# Altium footprint library PcbLib1.PcbLib: 35 footprints (part 1 of 3)
Each footprint in its own frame and in the unit in brackets; x right, y up, seen from the top. Pads: shape width x height; smd on the part's side, far side on the other; paste and mask are expansions set on the pad; w line width, h text height; cw(c..) or ccw(c..) is an arc to the next point about the centre after c.
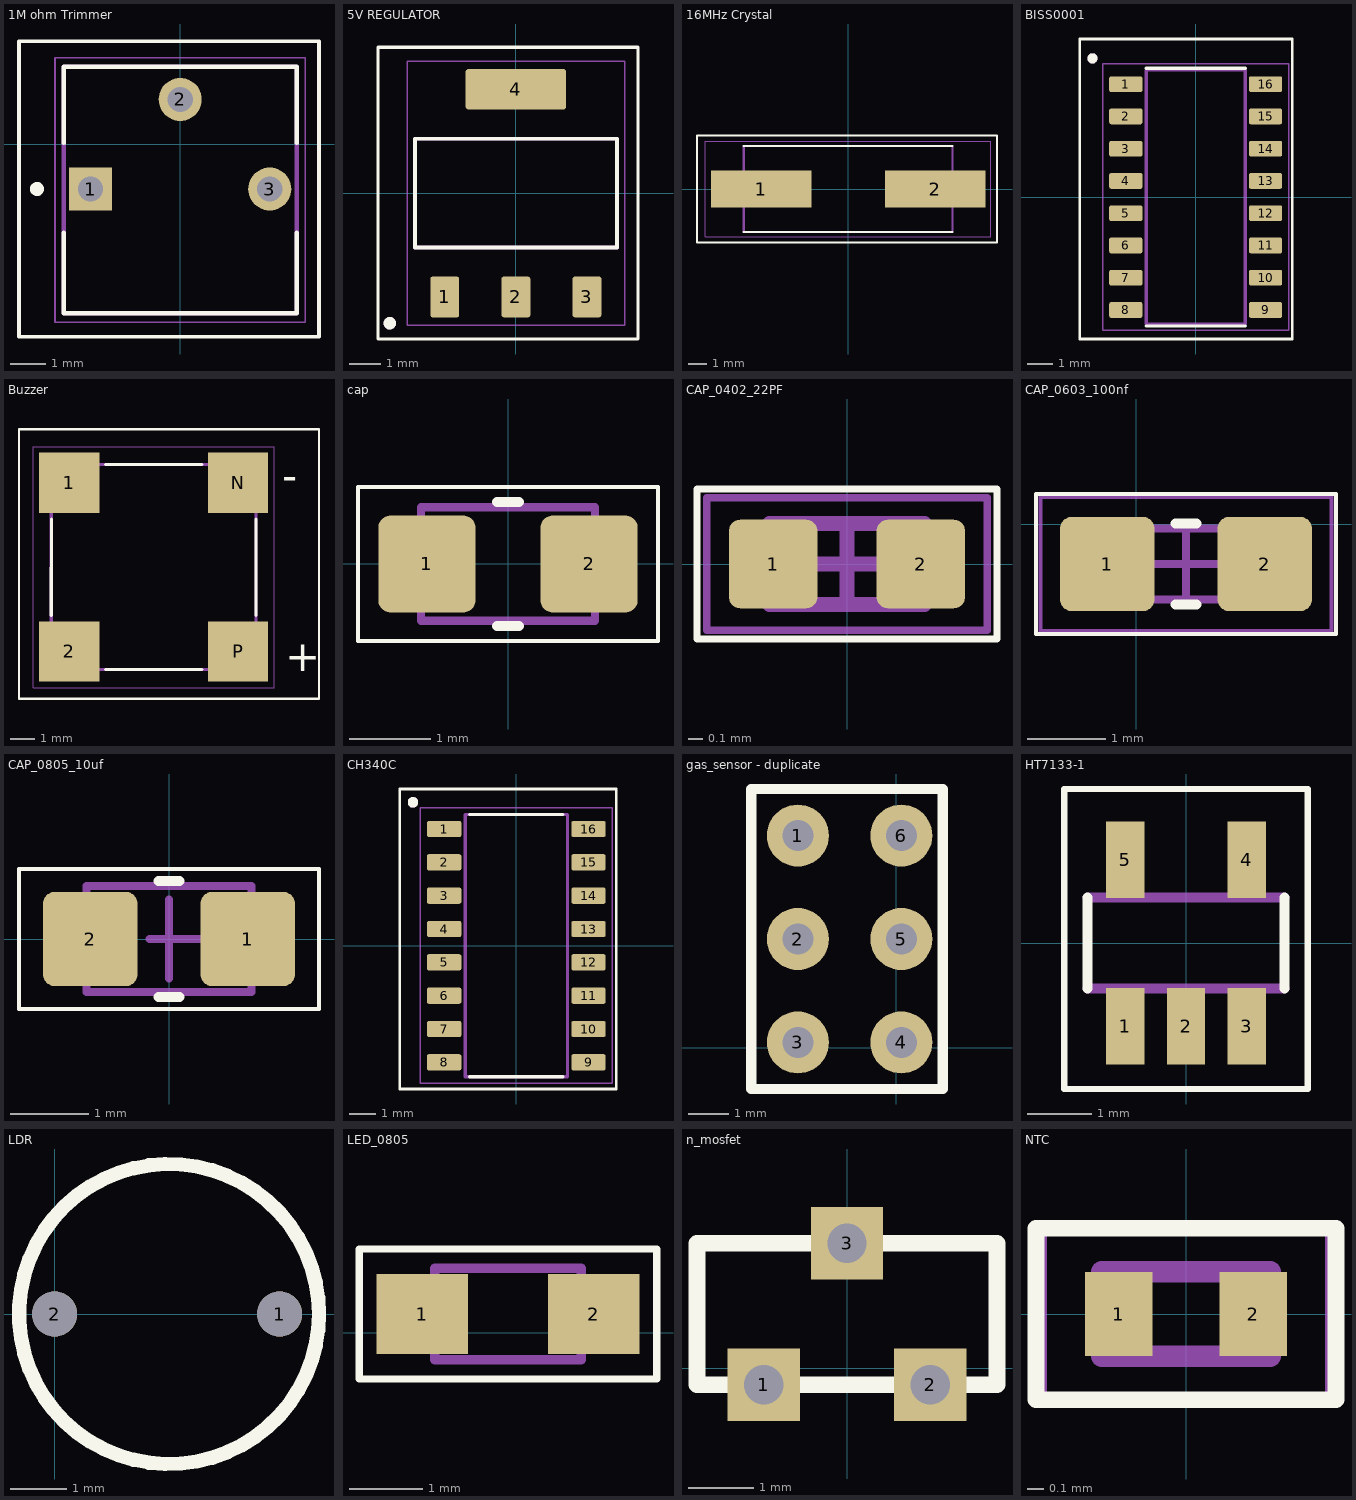
[diagram p0: the footprints below, top view; thin cyan lines are the x and y axes]

## 1M ohm Trimmer [mm]
pads (3):
  rect 1.222x1.222 / inner round 1.222 / far side rect 1.222x1.222 hole 0.714: 1(-2.54,-1.27)
  round 1.222 hole 0.714: 2(0,1.27) 3(2.54,-1.27)
Top Overlay:
  circle w0.2: c-4.064,-1.27 r0.1
  lines w0.1: -4.572,-5.461 3.937,-5.461 3.937,2.921 -4.572,2.921 -4.572,-5.461
  lines w0.127: -3.3,-4.8 3.3,-4.8 ; -3.3,-4.79 -3.3,-2.505 ; -3.3,0.035 -3.3,2.2 3.3,2.2 3.3,0.035 ; 3.3,-4.79 3.3,-2.505
Top 3D Body:
  lines w0.127: -3.3,-4.8 3.3,-4.8 3.3,2.2 -3.3,2.2 -3.3,-4.8
Top Courtyard:
  lines w0.05: -3.55,-5.05 3.55,-5.05 3.55,2.45 -3.55,2.45 -3.55,-5.05
3D body "step_temp.STEP": height 4.88, standoff -5.84, extent -3.3,-4.765 3.3,2.225

## 5V REGULATOR [mm]
pads (4):
  rrect15% 0.93x1.31 smd: 1(-2.29,-3.345) 2(0,-3.345) 3(2.29,-3.345)
  rrect15% 3.24x1.31 smd: 4(0,3.345)
Top Overlay:
  circle w0.2: c-4.064,-4.191 r0.1
  lines w0.1: -4.445,-4.699 3.937,-4.699 3.937,4.699 -4.445,4.699 -4.445,-4.699
  lines w0.127: -3.252,-1.752 -3.252,1.753 3.253,1.753 3.253,-1.752 -3.252,-1.752
Top 3D Body:
  circle w0.2: c-4.064,-4.191 r0.1
  lines w0.127: -3.252,-1.752 -3.252,1.753 3.253,1.753 3.253,-1.752 -3.252,-1.752
Top Courtyard:
  lines w0.05: -3.502,-4.25 -3.502,4.25 3.503,4.25 3.503,-4.25 -3.502,-4.25
3D body "step_temp.STEP": height 1.8, standoff 0, extent -3.251,-3.499 3.251,3.499

## 16MHz Crystal [mm]
pads (2):
  rect 5.5x2 smd paste+0 mask+0.102: 1(-4.75,0) 2(4.75,0)
Top Overlay:
  lines w0.1: -8.255,-2.921 8.128,-2.921 8.128,2.921 -8.255,2.921 -8.255,-2.921
  lines w0.127: -5.7,-2.35 5.7,-2.35 ; -5.7,2.35 5.7,2.35
Top 3D Body:
  lines w0.127: -5.7,-2.35 5.7,-2.35 5.7,2.35 -5.7,2.35 -5.7,-2.35
Top Courtyard:
  lines w0.05: -7.8,-2.6 7.8,-2.6 7.8,2.6 -7.8,2.6 -7.8,-2.6
3D body "step_temp.STEP": height 3.3, standoff 0, extent -6.35,-2.35 6.35,2.35

## BISS0001 [mm]
pads (16):
  rrect25% 1.31x0.62 smd paste+0 mask+0.102: 1(-2.75,4.445) 2(-2.75,3.175) 3(-2.75,1.905) 4(-2.75,0.635) 5(-2.75,-0.635) 6(-2.75,-1.905) 7(-2.75,-3.175) 8(-2.75,-4.445) 9(2.75,-4.445) 10(2.75,-3.175) 11(2.75,-1.905) 12(2.75,-0.635) 13(2.75,0.635) 14(2.75,1.905) 15(2.75,3.175) 16(2.75,4.445)
Top Overlay:
  circle w0.2: c-4.064,5.461 r0.1
  lines w0.1: -4.572,-5.588 3.81,-5.588 3.81,6.223 -4.572,6.223 -4.572,-5.588
  lines w0.127: -1.95,-5.075 1.95,-5.075 ; -1.95,5.075 1.95,5.075
Top 3D Body:
  circle w0.2: c-4.064,5.461 r0.1
  lines w0.127: -1.95,-5 -1.95,5 1.95,5 1.95,-5 -1.95,-5
Top Courtyard:
  lines w0.05: -3.655,-5.25 -3.655,5.25 3.655,5.25 3.655,-5.25 -3.655,-5.25
3D body "step_temp.STEP": height 1.8, standoff 0, extent -3,-5 3,5

## Buzzer [mm]
pads (4):
  rect 2.5x2.5 smd: 1(42.22,14.549) 2(42.22,7.549) N(49.22,14.549) P(49.22,7.549)
Top Overlay:
  lines w0.1: 40.132,5.588 52.578,5.588 52.578,16.764 40.132,16.764 40.132,5.588
  lines w0.127: 41.47,9.049 41.48,13.049 ; 43.72,6.799 47.72,6.799 ; 43.72,15.299 47.72,15.299 ; 49.97,9.049 49.97,13.049
  text "+" at 51.181,6.731 h1.27
  text "-" at 51.054,14.224 h1.27
Top 3D Body:
  lines w0.127: 41.47,6.799 49.97,6.799 49.97,15.299 41.47,15.299 41.47,6.799
Top Courtyard:
  lines w0.05: 40.72,6.049 50.72,6.049 50.72,16.049 40.72,16.049 40.72,6.049
3D body "step_temp.STEP": height 1, standoff -3, extent 41.402,6.799 49.902,15.299

## cap [mm] "Chip Resistor, 2-Leads, Body 2.00x1.27mm, IPC Medium Density"
height 0.55
pads (2):
  rrect25% 1.2x1.2 smd: 1(-1,0) 2(1,0)
Top Overlay:
  lines w0.05: -1.85,-0.95 1.85,-0.95 1.85,0.95 -1.85,0.95 -1.85,-0.95
  lines w0.127: -0.136,-0.764 0.136,-0.764 ; -0.136,0.763 0.136,0.763
  text ".Designator" at 0,0.019 h0.1
Top Assembly:
  lines w0.1: -1.075,-0.7 -1.075,0.7 1.075,0.7 1.075,-0.7 -1.075,-0.7
3D body: height 0.55, standoff 0, extent -0.6,-0.638 0.6,0.637
3D body: height 0.55, standoff 0, extent -1,-0.638 -0.6,0.637
3D body: height 0.55, standoff 0, extent 0.6,-0.638 1,0.637

## CAP_0402_22PF [mm] "Chip Capacitor, 2-Leads, Body 1.00x0.50mm, IPC Medium Density"
height 0.55
pads (2):
  rrect25% 0.6x0.6 smd: 1(-0.5,0) 2(0.5,0)
Top Overlay:
  lines w0.05: -1.016,-0.508 1.016,-0.508 1.016,0.508 -1.016,0.508 -1.016,-0.508
Top Assembly:
  lines w0.1: -0.525,-0.275 0.525,-0.275 0.525,0.275 -0.525,0.275 -0.525,-0.275
Top Designator:
  text "C?" at -0.127,-0.25 h0.4
Top Courtyard:
  lines w0.05: -0.95,-0.45 0.95,-0.45 0.95,0.45 -0.95,0.45 -0.95,-0.45
Top Component Center:
  lines w0.1: -0.275,0 0.275,0 ; 0,-0.275 0,0.275
3D body "CAPC1005X55N.step": height 0.55, standoff 0, extent -0.5,-0.25 0.5,0.25

## CAP_0603_100nf [mm]
pads (2):
  rrect25% 1.2x1.2 smd: 1(-0.365,-0.508) 2(1.635,-0.508)
Top Overlay:
  lines w0.05: -1.27,-1.397 2.54,-1.397 2.54,0.381 -1.27,0.381 -1.27,-1.397
  lines w0.127: 0.499,-1.022 0.771,-1.022 ; 0.499,0.005 0.771,0.005
Top Assembly:
  lines w0.1: -0.215,-0.958 1.485,-0.958 1.485,-0.058 -0.215,-0.058 -0.215,-0.958
Top Designator:
  text "C?" at 0.127,-0.37 h1
Top Courtyard:
  lines w0.05: -1.215,-1.358 2.485,-1.358 2.485,0.342 -1.215,0.342 -1.215,-1.358
Top Component Center:
  lines w0.1: 0.185,-0.508 1.085,-0.508 ; 0.635,-0.958 0.635,-0.058
3D body "CAPC1608X90N.step": height 0.9, standoff 0, extent -0.165,-0.908 1.435,-0.108

## CAP_0805_10uf [mm] "Chip Capacitor, 2-Leads, Body 2.00x1.25mm, IPC Medium Density"
height 1.35
pads (2):
  rrect25% 1.2x1.2 smd: 1(1,0) 2(-1,0)
Top Overlay:
  lines w0.05: -1.905,-0.889 1.905,-0.889 1.905,0.889 -1.905,0.889 -1.905,-0.889
  lines w0.127: -0.136,-0.739 0.136,-0.739 ; -0.136,0.738 0.136,0.738
Mechanical 1:
  text "C?" at -1.778,0.664 h0.15
Top Assembly:
  lines w0.1: -1.05,-0.675 1.05,-0.675 1.05,0.675 -1.05,0.675 -1.05,-0.675
Top Courtyard:
  lines w0.05: -1.905,-0.889 1.905,-0.889 1.905,0.889 -1.905,0.889 -1.905,-0.889
Top Component Center:
  lines w0.1: -0.246,0 0.754,0 ; 0,-0.5 0,0.5
3D body: height 1.35, standoff 0, extent 0.55,-0.625 1,0.625
3D body: height 1.35, standoff 0, extent -1,-0.625 -0.55,0.625
3D body: height 1.35, standoff 0, extent -0.55,-0.625 0.55,0.625

## CH340C [mm]
pads (16):
  rrect25% 1.31x0.62 smd: 1(-2.75,4.445) 2(-2.75,3.175) 3(-2.75,1.905) 4(-2.75,0.635) 5(-2.75,-0.635) 6(-2.75,-1.905) 7(-2.75,-3.175) 8(-2.75,-4.445) 9(2.75,-4.445) 10(2.75,-3.175) 11(2.75,-1.905) 12(2.75,-0.635) 13(2.75,0.635) 14(2.75,1.905) 15(2.75,3.175) 16(2.75,4.445)
Top Overlay:
  circle w0.2: c-3.937,5.461 r0.1
  lines w0.1: -4.445,-5.461 -4.445,5.969 3.81,5.969 3.81,-5.461 -4.445,-5.461
  lines w0.127: -1.775,-5 1.775,-5 -1.775,-5 ; -1.775,5 1.775,5 -1.775,5
Top 3D Body:
  circle w0.2: c-3.937,5.461 r0.1
  lines w0.127: -1.95,-5 -1.95,5 1.95,5 1.95,-5 -1.95,-5
Top Courtyard:
  lines w0.05: -3.655,-5.25 3.655,-5.25 3.655,5.25 -3.655,5.25 -3.655,-5.25
3D body "step_temp.STEP": height 1.8, standoff 0, extent -3,-5 3,5

## gas_sensor - duplicate [mil]
pads (6):
  round 60 hole 30: 1(-95,205) 2(-95,105) 3(-95,5) 4(5,5) 5(5,105) 6(5,205)
Top Overlay:
  lines w10: -140,-40 -140,250 45,250 45,-40 -140,-40

## HT7133-1 [mm]
pads (5):
  rect 0.6x1.2 smd paste+0 mask+0.102: 1(-0.95,-1.306) 2(0,-1.306) 3(0.95,-1.306) 4(0.95,1.306) 5(-0.95,1.306)
Top Overlay:
  lines w0.1: -1.905,-2.286 -1.905,2.413 1.905,2.413 1.905,-2.286 -1.905,-2.286
  lines w0.152: -1.544,-0.712 -1.544,0.713 ; 1.544,-0.712 1.544,0.713
Top 3D Body:
  region: -0.713,0.713 -1.188,0.713 -1.188,1.544 -0.713,1.544
  region: 1.188,0.713 0.713,0.713 0.713,1.544 1.188,1.544
  region: -0.713,-1.544 -1.188,-1.544 -1.188,-0.712 -0.713,-0.712
  region: 0.238,-1.544 -0.238,-1.544 -0.238,-0.712 0.238,-0.712
  region: 1.188,-1.544 0.713,-1.544 0.713,-0.712 1.188,-0.712
  lines w0.152: -1.544,-0.712 1.544,-0.712 ; -1.544,0.713 1.544,0.713

## LDR [mm]
pads (2):
  round 0.8 hole 0.8: 1(4,0) 2(0,0)
Top Overlay:
  circle w0.254: c2.032,0 r2.667

## LED_0805 [mm]
pads (2):
  rect 1.25x1.1 smd: 1(-5.874,0.254) 2(-3.524,0.254)
Top Overlay:
  lines w0.1: -6.731,-0.635 -2.667,-0.635 -2.667,1.143 -6.731,1.143 -6.731,-0.635
Top 3D Body:
  lines w0.127: -5.699,-0.371 -5.699,0.879 -3.699,0.879 -3.699,-0.371 -5.699,-0.371
Top Courtyard:
  lines w0.05: -6.749,-0.621 -2.649,-0.621 -2.649,1.129 -6.749,1.129 -6.749,-0.621

## n_mosfet [mm]
pads (3):
  rect 1.1x1.1 hole 0.6 square: 1(-1.27,-0.254) 2(1.27,-0.254) 3(0,1.905)
Top Overlay:
  lines w0.254: -2.286,-0.254 -2.286,1.905 2.286,1.905 2.286,-0.254 -2.286,-0.254

## NTC [mm]
pads (2):
  rect 0.4x0.5 smd: 1(-0.4,0) 2(0.4,0)
Top Overlay:
  lines w0.1: -0.889,-0.508 0.889,-0.508 0.889,0.508 -0.889,0.508 -0.889,-0.508
Top 3D Body:
  lines w0.127: -0.5,-0.25 -0.5,0.25 0.5,0.25 0.5,-0.25 -0.5,-0.25
Top Courtyard:
  lines w0.05: -0.85,-0.5 -0.85,0.5 0.85,0.5 0.85,-0.5 -0.85,-0.5
3D body "step_temp.STEP": height 0.55, standoff 0, extent -0.5,-0.25 0.5,0.25